# Altium schematic symbol library alarm_clock.SchLib: 2 symbols
Pins are listed as number, name and electrical type; pins without a type are passive.

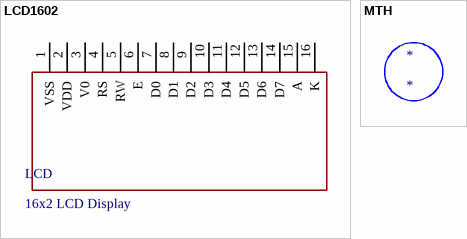
[diagram p0: symbols LCD1602 to MTH]

## LCD1602
designator LCD, comment 16x2 LCD Display
footprint LCD1602 (16x2 LCD)
pins: 1 VSS, 2 VDD, 3 V0, 4 RS, 5 RW, 6 E, 7 D0, 8 D1, 9 D2, 10 D3, 11 D4, 12 D5, 13 D6, 14 D7, 15 A, 16 K

## MTH
designator *
footprint MTH (Mounting Hole 3mm Diameter)